# Altium integrated library CSD87503Q3ET.IntLib: 1 symbol
Pins are listed as number, name and electrical type; pins without a type are passive.

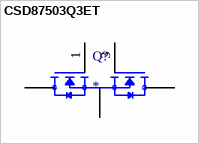
[diagram p0: symbol CSD87503Q3ET]

## CSD87503Q3ET
designator Q?
30V, N ch NexFET MOSFET, dual common source SON3x3, 21.9mOhm 8-VSON -55 to 150  <a href="https://pricing.snapeda.com/parts/CSD87503Q3ET/Texas%20Instruments/view-part?ref=eda">Check prices</a> <a href="https://pricing.snapeda.com/parts/CSD87503Q3ET/Texas%20Instruments/view-part?ref=eda">Check prices</a>; Package: None; Price: None; Value: *; MP: CSD87503Q3ET; Availability: Unavailable
footprint TRANS_CSD87503Q3ET
pins: 1 G1, 2 S, 3 G2, 4 S, 9 D1, 9.1 D1, 9.2 D1, 10 D2, 10.1 D2, 10.2 D2